# Altium integrated library Infineon_Power_MOSFET.IntLib: 1448 symbols (part 24 of 47)
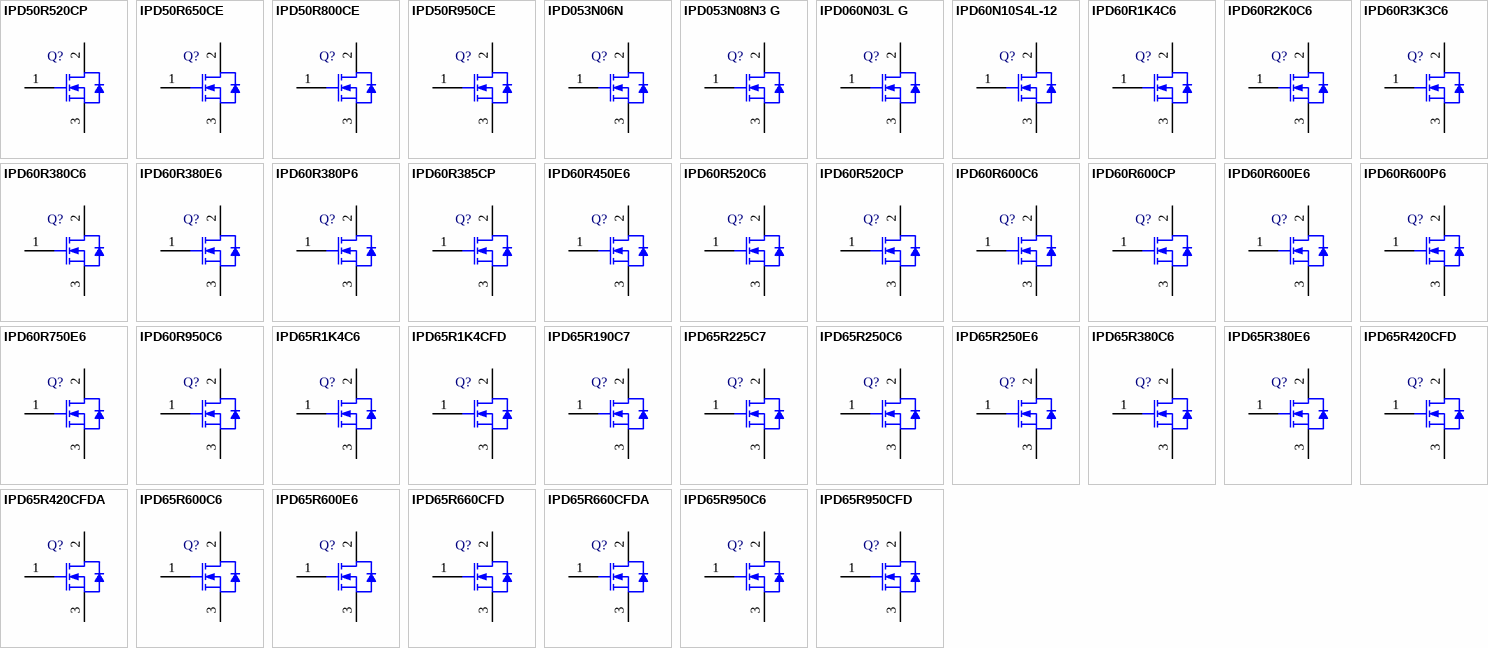
[diagram p60: symbols IPD50R520CP to IPD65R950CFD]

## IPD50R520CP
designator Q?
N-Channel CoolMOS Power-Transistor, 500 V VDS, 7.1 A ID, -55 to 150 degC, PG-TO252-3-313, Reel, Green; Manufacturer: Infineon; PartNumber: IPD50R520CP; Green: TRUE; ID (max): 7.1 A; IDpuls (max): 15 A; Polarity: N; Ptot (max): 66 W; QG: 13 nC; RDS (on) (max): 520 mOhm; Rth: 1.9 K/W; RthJA (max): 62 K/W; VDS (max): 500 V; VGS(th) (max): 3.5 V; VGS(th) (min): 2.5 V; DatasheetVersion: Rev. 2.0; PackageVersion: Oct-10; PackageReference: PG-TO252-3-313; PackageDescription: 3-Pin Plastic (Green) Transistor Single Outline Package, 6.5 x 6.12 mm Body, 2.28 mm Pitch; Supplier 1: Mouser; Supplier Part Number 1: 726-IPD50R520CP; Supplier 2: Newark; Supplier Part Number 2: 33P7142; Supplier 3: Farnell; Supplier Part Number 3: 1664026; Supplier 4: Farnell; Supplier Part Number 4: 1664026RL; Supplier 5: Digi-Key; Supplier Part Number 5: IPD50R520CP-ND; Packing: Reel; RthJC (max): 1.9 K/W; Technology: CoolMOS CP; Mounting Technology: Surface Mount; ComponentLink1Description: Manufacturer URL; ComponentLink1URL: http://www.infineon.com/; ComponentLink2Description: Datasheet; ComponentLink2URL: http://www.infineon.com/dgdl/IPD50R520CP_rev2+1.pdf?folderId=db3a3043163797a6011637d4bae7003b&fileId=db3a3043243b5f170124c8e8f6d24acf; ComponentLink3Description: Package Specification; ComponentLink3URL: http://www.infineon.com/dgdl/PG-TO252-3-313-Package_Overview.pdf?folderId=db3a30432b57a660012b81890ade72d2&fileId=db3a30432b57a660012b8193af2872eb
footprint INF-PG-TO252-3-313_N (DPAK, 3-Leads, Body 6.5x6.12mm, Pitch 2.28mm, IPC Medium Density)
footprint INF-PG-TO252-3-313_L (DPAK, 3-Leads, Body 6.5x6.12mm, Pitch 2.28mm, IPC High Density)
footprint INF-PG-TO252-3-313_M (DPAK, 3-Leads, Body 6.5x6.12mm, Pitch 2.28mm, IPC Low Density)
pins: 1 GATE, 2 DRAIN, 3 SOURCE

## IPD50R650CE
designator Q?
N-Channel CoolMOS CE Power-Transistor, 500 V VDS, 6.1 A ID, -55 to 150 degC, PG-TO252-3-313, Reel, Green; Manufacturer: Infineon; PartNumber: IPD50R650CE; Green: TRUE; ID (max): 6.1 A; IDpuls (max): 19 A; Polarity: N; Ptot (max): 47 W; QG: 15 nC; RDS (on) (max): 650 mOhm; Rth: 2.67 K/W; RthJA (max): 62 K/W; VDS (max): 500 V; VGS(th) (max): 3.5 V; VGS(th) (min): 2.5 V; DatasheetVersion: Rev. 2.0; PackageVersion: Oct-10; PackageReference: PG-TO252-3-313; PackageDescription: 3-Pin Plastic (Green) Transistor Single Outline Package, 6.5 x 6.12 mm Body, 2.28 mm Pitch; Supplier 1: Digi-Key; Supplier Part Number 1: IPD50R650CETR-ND; Supplier 2: Digi-Key; Supplier Part Number 2: IPD50R650CECT-ND; Supplier 3: Digi-Key; Supplier Part Number 3: IPD50R650CEDKR-ND; Packing: Reel; RthJC (max): 2.67 K/W; Technology: CoolMOS CE; Mounting Technology: Surface Mount; ComponentLink1Description: Manufacturer URL; ComponentLink1URL: http://www.infineon.com/; ComponentLink2Description: Datasheet; ComponentLink2URL: http://www.infineon.com/dgdl/IPD50R650CE+2.0.pdf?folderId=db3a3043156fd5730115c736bcc70ff2&fileId=db3a304339d29c450139d41341a202a1; ComponentLink3Description: Package Specification; ComponentLink3URL: http://www.infineon.com/dgdl/PG-TO252-3-313-Package_Overview.pdf?folderId=db3a30432b57a660012b81890ade72d2&fileId=db3a30432b57a660012b8193af2872eb
footprint INF-PG-TO252-3-313_N (DPAK, 3-Leads, Body 6.5x6.12mm, Pitch 2.28mm, IPC Medium Density)
footprint INF-PG-TO252-3-313_L (DPAK, 3-Leads, Body 6.5x6.12mm, Pitch 2.28mm, IPC High Density)
footprint INF-PG-TO252-3-313_M (DPAK, 3-Leads, Body 6.5x6.12mm, Pitch 2.28mm, IPC Low Density)
pins: 1 GATE, 2 DRAIN, 3 SOURCE

## IPD50R800CE
designator Q?
N-Channel CoolMOS CE Power-Transistor, 500 V VDS, 5 A ID, -55 to 150 degC, PG-TO252-3-313, Reel, Green; Manufacturer: Infineon; PartNumber: IPD50R800CE; Green: TRUE; ID (max): 5 A; IDpuls (max): 15.5 A; Polarity: N; Ptot (max): 40 W; QG: 12.4 nC; RDS (on) (max): 800 mOhm; Rth: 3.15 K/W; RthJA (max): 62 K/W; VDS (max): 500 V; VGS(th) (max): 3.5 V; VGS(th) (min): 2.5 V; DatasheetVersion: Rev. 2.0; PackageVersion: Oct-10; PackageReference: PG-TO252-3-313; PackageDescription: 3-Pin Plastic (Green) Transistor Single Outline Package, 6.5 x 6.12 mm Body, 2.28 mm Pitch; Supplier 1: Digi-Key; Supplier Part Number 1: IPD50R800CETR-ND; Supplier 2: Digi-Key; Supplier Part Number 2: IPD50R800CECT-ND; Supplier 3: Digi-Key; Supplier Part Number 3: IPD50R800CEDKR-ND; Packing: Reel; RthJC (max): 3.15 K/W; Technology: CoolMOS CE; Mounting Technology: Surface Mount; ComponentLink1Description: Manufacturer URL; ComponentLink1URL: http://www.infineon.com/; ComponentLink2Description: Datasheet; ComponentLink2URL: http://www.infineon.com/dgdl/IPD50R800CE+2.0.pdf?folderId=db3a3043156fd5730115c736bcc70ff2&fileId=db3a304339d29c450139d424706c02c2; ComponentLink3Description: Package Specification; ComponentLink3URL: http://www.infineon.com/dgdl/PG-TO252-3-313-Package_Overview.pdf?folderId=db3a30432b57a660012b81890ade72d2&fileId=db3a30432b57a660012b8193af2872eb
footprint INF-PG-TO252-3-313_N (DPAK, 3-Leads, Body 6.5x6.12mm, Pitch 2.28mm, IPC Medium Density)
footprint INF-PG-TO252-3-313_L (DPAK, 3-Leads, Body 6.5x6.12mm, Pitch 2.28mm, IPC High Density)
footprint INF-PG-TO252-3-313_M (DPAK, 3-Leads, Body 6.5x6.12mm, Pitch 2.28mm, IPC Low Density)
pins: 1 GATE, 2 DRAIN, 3 SOURCE

## IPD50R950CE
designator Q?
N-Channel CoolMOS CE Power-Transistor, 500 V VDS, 4.3 A ID, -55 to 150 degC, PG-TO252-3-313, Reel, Green; Manufacturer: Infineon; PartNumber: IPD50R950CE; Green: TRUE; ID (max): 4.3 A; IDpuls (max): 12.8 A; Polarity: N; Ptot (max): 34 W; QG: 10.5 nC; RDS (on) (max): 950 mOhm; Rth: 3.7 K/W; RthJA (max): 62 K/W; VDS (max): 500 V; VGS(th) (max): 3.5 V; VGS(th) (min): 2.5 V; DatasheetVersion: Rev. 2.0; PackageVersion: Oct-10; PackageReference: PG-TO252-3-313; PackageDescription: 3-Pin Plastic (Green) Transistor Single Outline Package, 6.5 x 6.12 mm Body, 2.28 mm Pitch; Supplier 1: Mouser; Supplier Part Number 1: 726-IPD50R950CE; Supplier 2: Digi-Key; Supplier Part Number 2: IPD50R950CEINTR-ND; Supplier 3: Digi-Key; Supplier Part Number 3: IPD50R950CEINCT-ND; Supplier 4: Digi-Key; Supplier Part Number 4: IPD50R950CEINDKR-ND; Packing: Reel; RthJC (max): 3.7 K/W; Technology: CoolMOS CE; Mounting Technology: Surface Mount; ComponentLink1Description: Manufacturer URL; ComponentLink1URL: http://www.infineon.com/; ComponentLink2Description: Datasheet; ComponentLink2URL: http://www.infineon.com/dgdl/IPx50R950CE+2.0.pdf?folderId=db3a3043156fd5730115c736bcc70ff2&fileId=db3a3043382e837301385194b31e1064; ComponentLink3Description: Package Specification; ComponentLink3URL: http://www.infineon.com/dgdl/PG-TO252-3-313-Package_Overview.pdf?folderId=db3a30432b57a660012b81890ade72d2&fileId=db3a30432b57a660012b8193af2872eb
footprint INF-PG-TO252-3-313_N (DPAK, 3-Leads, Body 6.5x6.12mm, Pitch 2.28mm, IPC Medium Density)
footprint INF-PG-TO252-3-313_L (DPAK, 3-Leads, Body 6.5x6.12mm, Pitch 2.28mm, IPC High Density)
footprint INF-PG-TO252-3-313_M (DPAK, 3-Leads, Body 6.5x6.12mm, Pitch 2.28mm, IPC Low Density)
pins: 1 GATE, 2 DRAIN, 3 SOURCE

## IPD053N06N
designator Q?
N-Channel OptiMOS Power-Transistor, 60 V VDS, 45 A ID, -55 to 175 degC, PG-TO252-3-11, Reel, Green; Manufacturer: Infineon; PartNumber: IPD053N06N; Green: TRUE; ID (max): 45 A; IDpuls (max): 180 A; Polarity: N; Ptot (max): 83 W; QG: 27 nC; RDS (on) (max): 5.3 mOhm; Rth: 1.8 K/W; RthJA (max): 62 K/W; VDS (max): 60 V; VGS(th) (max): 3.3 V; VGS(th) (min): 2.1 V; DatasheetVersion: Rev. 2.2; PackageVersion: Rev. 02, 03/2007; PackageReference: PG-TO252-3-11; PackageDescription: 3-Pin Plastic (Green) Transistor Single Outline Package, 6.57 x 6.1 mm Body, 2.29 mm Pitch; Supplier 1: Digi-Key; Supplier Part Number 1: IPD053N06NTR-ND; Supplier 2: Digi-Key; Supplier Part Number 2: IPD053N06NCT-ND; Supplier 3: Digi-Key; Supplier Part Number 3: IPD053N06NDKR-ND; Halogen-free: TRUE; Packing: Reel; RthJC (max): 1.8 K/W; Mounting Technology: Surface Mount; ComponentLink1Description: Manufacturer URL; ComponentLink1URL: http://www.infineon.com/; ComponentLink2Description: Datasheet; ComponentLink2URL: http://www.infineon.com/dgdl/IPD053N06N_Rev2.2.pdf?folderId=db3a304313b8b5a60113cee8763b02d7&fileId=db3a30433727a44301372c22c4c3499f; ComponentLink3Description: Package Specification; ComponentLink3URL: http://www.infineon.com/dgdl/IPD160N04L_rev1.0.pdf?folderId=db3a3043163797a6011643468e7505a4&fileId=db3a3043163797a60116436401cf05cf
footprint INF-PG-TO252-3-11_A_N (DPAK, 3-Leads, Body 6.57x6.1mm, Pitch 2.29mm, IPC Medium Density)
footprint INF-PG-TO252-3-11_A_L (DPAK, 3-Leads, Body 6.57x6.1mm, Pitch 2.29mm, IPC High Density)
footprint INF-PG-TO252-3-11_A_M (DPAK, 3-Leads, Body 6.57x6.1mm, Pitch 2.29mm, IPC Low Density)
pins: 1 GATE, 2 DRAIN, 3 SOURCE

## IPD053N08N3 G
designator Q?
N-Channel OptiMOS 3 Power-Transistor, 80 V VDS, 90 A ID, -55 to 175 degC, PG-TO252-3-11, Reel, Green; Manufacturer: Infineon; PartNumber: IPD053N08N3 G; Green: TRUE; ID (max): 90 A; IDpuls (max): 360 A; Polarity: N; Ptot (max): 150 W; QG: 52 nC; RDS (on) (max): 5.3 mOhm; Rth: 1 K/W; RthJA (max): 75 K/W; VDS (max): 80 V; VGS(th) (max): 3.5 V; VGS(th) (min): 2 V; DatasheetVersion: Rev. 1.0; PackageVersion: Rev. 02, 03/2007; PackageReference: PG-TO252-3-11; PackageDescription: 3-Pin Plastic (Green) Transistor Single Outline Package, 6.57 x 6.1 mm Body, 2.29 mm Pitch; Supplier 1: Mouser; Supplier Part Number 1: 726-IPD053N08N3G; Supplier 2: Newark; Supplier Part Number 2: 60R2692; Supplier 3: Farnell; Supplier Part Number 3: 1775574; Supplier 4: Digi-Key; Supplier Part Number 4: IPD053N08N3 GTR-ND; Supplier 5: Digi-Key; Supplier Part Number 5: IPD053N08N3 GCT-ND; Supplier 6: Digi-Key; Supplier Part Number 6: IPD053N08N3 GDKR-ND; Packing: Reel; RthJC (max): 1 K/W; Mounting Technology: Surface Mount; ComponentLink1Description: Manufacturer URL; ComponentLink1URL: http://www.infineon.com/; ComponentLink2Description: Datasheet; ComponentLink2URL: http://www.infineon.com/dgdl/IPD053N08N3_Rev1.pdf?folderId=db3a304313b8b5a60113cee8763b02d7&fileId=db3a304317a748360117cf072cf31ce8; ComponentLink3Description: Package Specification; ComponentLink3URL: http://www.infineon.com/dgdl/IPD160N04L_rev1.0.pdf?folderId=db3a3043163797a6011643468e7505a4&fileId=db3a3043163797a60116436401cf05cf
footprint INF-PG-TO252-3-11_A_N (DPAK, 3-Leads, Body 6.57x6.1mm, Pitch 2.29mm, IPC Medium Density)
footprint INF-PG-TO252-3-11_A_L (DPAK, 3-Leads, Body 6.57x6.1mm, Pitch 2.29mm, IPC High Density)
footprint INF-PG-TO252-3-11_A_M (DPAK, 3-Leads, Body 6.57x6.1mm, Pitch 2.29mm, IPC Low Density)
pins: 1 GATE, 2 DRAIN, 3 SOURCE

## IPD060N03L G
designator Q?
N-Channel OptiMOS 3 Power-Transistor, 30 V VDS, 50 A ID, -55 to 175 degC, PG-TO252-3-11, Reel, Green; Manufacturer: Infineon; PartNumber: IPD060N03L G; Green: TRUE; ID (max): 50 A; IDpuls (max): 350 A; Polarity: N; Ptot (max): 56 W; QG: 11.3 nC; RDS (on) (max): 6 mOhm; RDS (on) (max) (@4.5V): 9 mOhm; Rth: 2.7 K/W; RthJA (max): 75 K/W; VDS (max): 30 V; VGS(th) (max): 2.2 V; VGS(th) (min): 1 V; DatasheetVersion: Rev. 2.0; PackageVersion: Rev. 02, 03/2007; PackageReference: PG-TO252-3-11; PackageDescription: 3-Pin Plastic (Green) Transistor Single Outline Package, 6.57 x 6.1 mm Body, 2.29 mm Pitch; Supplier 1: Newark; Supplier Part Number 1: 60R2693; Supplier 2: Farnell; Supplier Part Number 2: 1775575; Supplier 3: Digi-Key; Supplier Part Number 3: IPD060N03LGINTR-ND; Supplier 4: Digi-Key; Supplier Part Number 4: IPD060N03LGINCT-ND; Supplier 5: Digi-Key; Supplier Part Number 5: IPD060N03LGINDKR-ND; Halogen-free: TRUE; Packing: Reel; RthJC (max): 2.7 K/W; Mounting Technology: Surface Mount; ComponentLink1Description: Manufacturer URL; ComponentLink1URL: http://www.infineon.com/; ComponentLink2Description: Datasheet; ComponentLink2URL: http://www.infineon.com/dgdl/IPD060N03LG_rev2.pdf?folderId=db3a304313b8b5a60113cee8763b02d7&fileId=db3a30432313ff5e01239e4d33a3702f; ComponentLink3Description: Package Specification; ComponentLink3URL: http://www.infineon.com/dgdl/IPD160N04L_rev1.0.pdf?folderId=db3a3043163797a6011643468e7505a4&fileId=db3a3043163797a60116436401cf05cf
footprint INF-PG-TO252-3-11_A_N (DPAK, 3-Leads, Body 6.57x6.1mm, Pitch 2.29mm, IPC Medium Density)
footprint INF-PG-TO252-3-11_A_L (DPAK, 3-Leads, Body 6.57x6.1mm, Pitch 2.29mm, IPC High Density)
footprint INF-PG-TO252-3-11_A_M (DPAK, 3-Leads, Body 6.57x6.1mm, Pitch 2.29mm, IPC Low Density)
pins: 1 GATE, 2 DRAIN, 3 SOURCE

## IPD60N10S4L-12
designator Q?
OptiMOS-T2 Power-Transistor, 100 V VDS, 60 A ID, PG-TO252-3-313, Reel, Green; Manufacturer: Infineon; PartNumber: IPD60N10S4L-12; Green: TRUE; ID (max): 60 A; IDpuls (max): 240 A; Ptot (max): 94 W; QG: 38 nC; RDS (on) (max) (@10V): 12 mOhm; RDS (on) (max) (@4.5V): 15 mOhm; RthJC (max): 1.6 K/W; VDS (max): 100 V; VGS(th) (max): 2.1 V; VGS(th) (min): 1.1 V; DatasheetVersion: Rev. 1.0; PackageVersion: Oct-10; PackageReference: PG-TO252-3-313; PackageDescription: 3-Pin Plastic (Green) Transistor Single Outline Package, 6.5 x 6.12 mm Body, 2.28 mm Pitch; Halogen-free: TRUE; Packing: Reel; Technology: OptiMOS-T2; Mounting Technology: Surface Mount; ComponentLink1Description: Manufacturer URL; ComponentLink1URL: http://www.infineon.com/; ComponentLink2Description: Datasheet; ComponentLink2URL: http://www.infineon.com/dgdl/IPD60N10S4L-12_DS_1_0.pdf?folderId=db3a3043156fd5730115c7d50620107c&fileId=db3a3043372d5cc801374ffd51cd0505&location=en.Products.Automotive_ICs.Automotive_MOSFETs.Single__N-Channel_100V_MOSFETs.DATASHEET.IPD60N10S4L-12_DS_1_0.pdf; ComponentLink3Description: Package Specification; ComponentLink3URL: http://www.infineon.com/dgdl/PG-TO252-3-313-Package_Overview.pdf?folderId=db3a30432b57a660012b81890ade72d2&fileId=db3a30432b57a660012b8193af2872eb
footprint INF-PG-TO252-3-313_N (DPAK, 3-Leads, Body 6.5x6.12mm, Pitch 2.28mm, IPC Medium Density)
footprint INF-PG-TO252-3-313_L (DPAK, 3-Leads, Body 6.5x6.12mm, Pitch 2.28mm, IPC High Density)
footprint INF-PG-TO252-3-313_M (DPAK, 3-Leads, Body 6.5x6.12mm, Pitch 2.28mm, IPC Low Density)
pins: 1 GATE, 2 DRAIN, 3 SOURCE

## IPD60R1K4C6
designator Q?
N-Channel CoolMOS C6 Power-Transistor, 600 V VDS, 3.2 A ID, -55 to 150 degC, PG-TO252-3-313, Reel, Green; Manufacturer: Infineon; PartNumber: IPD60R1K4C6; Green: TRUE; ID (max): 3.2 A; IDpuls (max): 8 A; Polarity: N; Ptot (max): 28.4 W; QG: 9.4 nC; RDS (on) (max): 1,400 mOhm; Rth: 4.4 K/W; RthJA (max): 62 K/W; VDS (max): 600 V; VGS(th) (max): 3.5 V; VGS(th) (min): 2.5 V; DatasheetVersion: Rev. 2.0; PackageVersion: Oct-10; PackageReference: PG-TO252-3-313; PackageDescription: 3-Pin Plastic (Green) Transistor Single Outline Package, 6.5 x 6.12 mm Body, 2.28 mm Pitch; Supplier 1: Mouser; Supplier Part Number 1: 726-IPD60R1K4C6; Supplier 2: Newark; Supplier Part Number 2: 47W3472; Supplier 3: Farnell; Supplier Part Number 3: 2212863; Supplier 4: Digi-Key; Supplier Part Number 4: IPD60R1K4C6TR-ND; Supplier 5: Digi-Key; Supplier Part Number 5: IPD60R1K4C6CT-ND; Supplier 6: Digi-Key; Supplier Part Number 6: IPD60R1K4C6DKR-ND; Packing: Reel; RthJC (max): 4.4 K/W; Technology: CoolMOS C6; Mounting Technology: Surface Mount; ComponentLink1Description: Manufacturer URL; ComponentLink1URL: http://www.infineon.com/; ComponentLink2Description: Datasheet; ComponentLink2URL: http://www.infineon.com/dgdl/IPD60R1K4C6_2.0.pdf?folderId=db3a3043163797a6011638933eda014b&fileId=db3a304329a0f6ee0129eef00aaa05e5; ComponentLink3Description: Package Specification; ComponentLink3URL: http://www.infineon.com/dgdl/PG-TO252-3-313-Package_Overview.pdf?folderId=db3a30432b57a660012b81890ade72d2&fileId=db3a30432b57a660012b8193af2872eb
footprint INF-PG-TO252-3-313_N (DPAK, 3-Leads, Body 6.5x6.12mm, Pitch 2.28mm, IPC Medium Density)
footprint INF-PG-TO252-3-313_L (DPAK, 3-Leads, Body 6.5x6.12mm, Pitch 2.28mm, IPC High Density)
footprint INF-PG-TO252-3-313_M (DPAK, 3-Leads, Body 6.5x6.12mm, Pitch 2.28mm, IPC Low Density)
pins: 1 GATE, 2 DRAIN, 3 SOURCE

## IPD60R2K0C6
designator Q?
N-Channel CoolMOS C6 Power-Transistor, 600 V VDS, 2.4 A ID, -55 to 150 degC, PG-TO252-3-313, Reel, Green; Manufacturer: Infineon; PartNumber: IPD60R2K0C6; Green: TRUE; ID (max): 2.4 A; IDpuls (max): 6 A; Polarity: N; Ptot (max): 22.3 W; QG: 6.7 nC; RDS (on) (max): 2000 mOhm; Rth: 5.6 K/W; RthJA (max): 62 K/W; VDS (max): 600 V; VGS(th) (max): 3.5 V; VGS(th) (min): 2.5 V; DatasheetVersion: Rev. 2.0; PackageVersion: Oct-10; PackageReference: PG-TO252-3-313; PackageDescription: 3-Pin Plastic (Green) Transistor Single Outline Package, 6.5 x 6.12 mm Body, 2.28 mm Pitch; Supplier 1: Mouser; Supplier Part Number 1: 726-IPD60R2K0C6; Supplier 2: Newark; Supplier Part Number 2: 47W3473; Supplier 3: Farnell; Supplier Part Number 3: 2212874; Supplier 4: Digi-Key; Supplier Part Number 4: IPD60R2K0C6TR-ND; Supplier 5: Digi-Key; Supplier Part Number 5: IPD60R2K0C6CT-ND; Supplier 6: Digi-Key; Supplier Part Number 6: IPD60R2K0C6DKR-ND; Packing: Reel; RthJC (max): 5.6 K/W; Technology: CoolMOS C6; Mounting Technology: Surface Mount; ComponentLink1Description: Manufacturer URL; ComponentLink1URL: http://www.infineon.com/; ComponentLink2Description: Datasheet; ComponentLink2URL: http://www.infineon.com/dgdl/IPD60R2K0C6_2.0.pdf?folderId=db3a3043163797a6011638933eda014b&fileId=db3a304329a0f6ee012a0dfc6b8b064f; ComponentLink3Description: Package Specification; ComponentLink3URL: http://www.infineon.com/dgdl/PG-TO252-3-313-Package_Overview.pdf?folderId=db3a30432b57a660012b81890ade72d2&fileId=db3a30432b57a660012b8193af2872eb
footprint INF-PG-TO252-3-313_N (DPAK, 3-Leads, Body 6.5x6.12mm, Pitch 2.28mm, IPC Medium Density)
footprint INF-PG-TO252-3-313_L (DPAK, 3-Leads, Body 6.5x6.12mm, Pitch 2.28mm, IPC High Density)
footprint INF-PG-TO252-3-313_M (DPAK, 3-Leads, Body 6.5x6.12mm, Pitch 2.28mm, IPC Low Density)
pins: 1 GATE, 2 DRAIN, 3 SOURCE

## IPD60R3K3C6
designator Q?
N-Channel CoolMOS C6 Power-Transistor, 600 V VDS, 1.7 A ID, -55 to 150 degC, PG-TO252-3-313, Reel, Green; Manufacturer: Infineon; PartNumber: IPD60R3K3C6; Green: TRUE; ID (max): 1.7 A; IDpuls (max): 4 A; Polarity: N; Ptot (max): 18.1 W; QG: 4.6 nC; RDS (on) (max): 3,300 mOhm; Rth: 6.9 K/W; RthJA (max): 62 K/W; VDS (max): 600 V; VGS(th) (max): 3.5 V; VGS(th) (min): 2.5 V; DatasheetVersion: Rev. 2.0; PackageVersion: Oct-10; PackageReference: PG-TO252-3-313; PackageDescription: 3-Pin Plastic (Green) Transistor Single Outline Package, 6.5 x 6.12 mm Body, 2.28 mm Pitch; Supplier 1: Mouser; Supplier Part Number 1: 726-IPD60R3K3C6; Supplier 2: Digi-Key; Supplier Part Number 2: IPD60R3K3C6TR-ND; Supplier 3: Digi-Key; Supplier Part Number 3: IPD60R3K3C6CT-ND; Supplier 4: Digi-Key; Supplier Part Number 4: IPD60R3K3C6DKR-ND; Packing: Reel; RthJC (max): 6.9 K/W; Technology: CoolMOS C6; Mounting Technology: Surface Mount; ComponentLink1Description: Manufacturer URL; ComponentLink1URL: http://www.infineon.com/; ComponentLink2Description: Datasheet; ComponentLink2URL: http://www.infineon.com/dgdl/IPD60R3K3C6_2.0.pdf?folderId=db3a3043156fd5730115c736bcc70ff2&fileId=db3a304329a0f6ee0129f96874465b3a; ComponentLink3Description: Package Specification; ComponentLink3URL: http://www.infineon.com/dgdl/PG-TO252-3-313-Package_Overview.pdf?folderId=db3a30432b57a660012b81890ade72d2&fileId=db3a30432b57a660012b8193af2872eb
footprint INF-PG-TO252-3-313_N (DPAK, 3-Leads, Body 6.5x6.12mm, Pitch 2.28mm, IPC Medium Density)
footprint INF-PG-TO252-3-313_L (DPAK, 3-Leads, Body 6.5x6.12mm, Pitch 2.28mm, IPC High Density)
footprint INF-PG-TO252-3-313_M (DPAK, 3-Leads, Body 6.5x6.12mm, Pitch 2.28mm, IPC Low Density)
pins: 1 GATE, 2 DRAIN, 3 SOURCE

## IPD60R380C6
designator Q?
N-Channel CoolMOS C6 Power-Transistor, 600 V VDS, 10.6 A ID, -55 to 150 degC, PG-TO252-3-313, Reel, Green; Manufacturer: Infineon; PartNumber: IPD60R380C6; Green: TRUE; ID (max): 10.6 A; IDpuls (max): 30 A; Polarity: N; Ptot (max): 83 W; QG: 32 nC; RDS (on) (max): 380 mOhm; Rth: 1.5 K/W; RthJA (max): 62 K/W; VDS (max): 600 V; VGS(th) (max): 3.5 V; VGS(th) (min): 2.5 V; DatasheetVersion: Rev. 2.0; PackageVersion: Oct-10; PackageReference: PG-TO252-3-313; PackageDescription: 3-Pin Plastic (Green) Transistor Single Outline Package, 6.5 x 6.12 mm Body, 2.28 mm Pitch; Supplier 1: Mouser; Supplier Part Number 1: 726-IPD60R380C6XT; Supplier 2: Newark; Supplier Part Number 2: 30T1835; Supplier 3: Farnell; Supplier Part Number 3: 1860805; Supplier 4: Digi-Key; Supplier Part Number 4: IPD60R380C6INTR-ND; Supplier 5: Digi-Key; Supplier Part Number 5: IPD60R380C6INCT-ND; Supplier 6: Digi-Key; Supplier Part Number 6: IPD60R380C6INDKR-ND; Packing: Reel; RthJC (max): 1.5 K/W; Technology: CoolMOS C6; Mounting Technology: Surface Mount; ComponentLink1Description: Manufacturer URL; ComponentLink1URL: http://www.infineon.com/; ComponentLink2Description: Datasheet; ComponentLink2URL: http://www.infineon.com/dgdl/IPD60R380C6_2_0.pdf?folderId=db3a30431ff98815012019af55de3f2c&fileId=db3a30432239cccd0122a82c9a1b7d6b; ComponentLink3Description: Package Specification; ComponentLink3URL: http://www.infineon.com/dgdl/PG-TO252-3-313-Package_Overview.pdf?folderId=db3a30432b57a660012b81890ade72d2&fileId=db3a30432b57a660012b8193af2872eb
footprint INF-PG-TO252-3-313_N (DPAK, 3-Leads, Body 6.5x6.12mm, Pitch 2.28mm, IPC Medium Density)
footprint INF-PG-TO252-3-313_L (DPAK, 3-Leads, Body 6.5x6.12mm, Pitch 2.28mm, IPC High Density)
footprint INF-PG-TO252-3-313_M (DPAK, 3-Leads, Body 6.5x6.12mm, Pitch 2.28mm, IPC Low Density)
pins: 1 GATE, 2 DRAIN, 3 SOURCE

## IPD60R380E6
designator Q?
N-Channel CoolMOS(TM) E6 Power Transistor, 600 V VDS, -55 to 150 degC, PG-TO252-3, Reel, Green; Manufacturer: Infineon; PartNumber: IPD60R380E6; Green: TRUE; Polarity: FALSE; RDS (on) (max): 380 mOhm; VDS (max): 600 V; DatasheetVersion: Rev. 2.5; PackageVersion: Rev. 2.2, 04/2007; PackageReference: PG-TO252-3-1_A; PackageDescription: 3-Pin Plastic (Green) Transistor Single Outline Package, 6.565 x 6.1 mm, 2.28 mm Pitch; Supplier 1: Mouser; Supplier Part Number 1: N/A; Halogen-free: TRUE; Packing: Reel; Mounting Technology: Surface Mount; ComponentLink1Description: Manufacturer URL; ComponentLink1URL: http://www.infineon.com/; ComponentLink2Description: Datasheet; ComponentLink2URL: http://www.infineon.com/dgdl/IPX60R380E6_Rev.2.5.pdf?folderId=db3a3043156fd5730115c736bcc70ff2&fileId=db3a30433ecb86d4013ed6779c5e2414; ComponentLink3Description: Package Specification; ComponentLink3URL: http://www.infineon.com/dgdl/IDD03E60Grev2_2.pdf?folderId=db3a304412b407950112b438b4176b74&fileId=db3a304412b407950112b438b49f6b75
footprint INF-PG-TO252-3-1_A_N (DPAK, 3-Leads, Body 6.565x6.1mm, Pitch 2.28mm, IPC Medium Density)
footprint INF-PG-TO252-3-1_A_L (DPAK, 3-Leads, Body 6.565x6.095mm, Pitch 2.29mm, IPC High Density)
footprint INF-PG-TO252-3-1_A_M (DPAK, 3-Leads, Body 6.565x6.095mm, Pitch 2.29mm, IPC Low Density)
pins: 1 GATE, 2 DRAIN, 3 SOURCE

## IPD60R380P6
designator Q?
N-Channel CoolMOS(TM) P6 Power Transistor, 600 V VDS, -55 to 150 degC, PG-TO252-3, Reel, Green; Manufacturer: Infineon; PartNumber: IPD60R380P6; Green: TRUE; Polarity: FALSE; RDS (on) (max): 380 mOhm; VDS (max): 600 V; DatasheetVersion: Rev. 2.1; PackageVersion: Rev. 2.2, 04/2007; PackageReference: PG-TO252-3-1_A; PackageDescription: 3-Pin Plastic (Green) Transistor Single Outline Package, 6.565 x 6.1 mm, 2.28 mm Pitch; Supplier 1: Farnell; Supplier Part Number 1: 2420497; Supplier 2: Newark; Supplier Part Number 2: 54X5224; Supplier 3: Mouser; Supplier Part Number 3: N/A; Halogen-free: TRUE; Packing: Reel; Mounting Technology: Surface Mount; ComponentLink1Description: Manufacturer URL; ComponentLink1URL: http://www.infineon.com/; ComponentLink2Description: Datasheet; ComponentLink2URL: http://www.infineon.com/dgdl/DS_IPx60R380P6_2_1.pdf?folderId=db3a3043156fd5730115c736bcc70ff2&fileId=db3a3043416e106e01416e9316410203; ComponentLink3Description: Package Specification; ComponentLink3URL: http://www.infineon.com/dgdl/IDD03E60Grev2_2.pdf?folderId=db3a304412b407950112b438b4176b74&fileId=db3a304412b407950112b438b49f6b75
footprint INF-PG-TO252-3-1_A_N (DPAK, 3-Leads, Body 6.565x6.1mm, Pitch 2.28mm, IPC Medium Density)
footprint INF-PG-TO252-3-1_A_L (DPAK, 3-Leads, Body 6.565x6.095mm, Pitch 2.29mm, IPC High Density)
footprint INF-PG-TO252-3-1_A_M (DPAK, 3-Leads, Body 6.565x6.095mm, Pitch 2.29mm, IPC Low Density)
pins: 1 GATE, 2 DRAIN, 3 SOURCE

## IPD60R385CP
designator Q?
N-Channel CoolMOS Power-Transistor, 600 V VDS, 9 A ID, -55 to 150 degC, PG-TO252-3-313, Reel, Green; Manufacturer: Infineon; PartNumber: IPD60R385CP; Green: TRUE; ID (max): 9 A; IDpuls (max): 27 A; Polarity: N; Ptot (max): 83 W; QG: 17 nC; RDS (on) (max): 385 mOhm; Rth: 1.5 K/W; RthJA (max): 62 K/W; VDS (max): 600 V; VGS(th) (max): 3.5 V; VGS(th) (min): 2.5 V; DatasheetVersion: Rev. 2.2; PackageVersion: Oct-10; PackageReference: PG-TO252-3-313; PackageDescription: 3-Pin Plastic (Green) Transistor Single Outline Package, 6.5 x 6.12 mm Body, 2.28 mm Pitch; Supplier 1: Mouser; Supplier Part Number 1: 726-IPD60R385CP; Supplier 2: Newark; Supplier Part Number 2: 33P7143; Supplier 3: Farnell; Supplier Part Number 3: 1664027RL; Supplier 4: Farnell; Supplier Part Number 4: 1664027; Supplier 5: Digi-Key; Supplier Part Number 5: IPD60R385CPINTR-ND; Supplier 6: Digi-Key; Supplier Part Number 6: IPD60R385CPINCT-ND; Supplier 7: Digi-Key; Supplier Part Number 7: IPD60R385CPINDKR-ND; Packing: Reel; RthJC (max): 1.5 K/W; Technology: CoolMOS CP; Mounting Technology: Surface Mount; ComponentLink1Description: Manufacturer URL; ComponentLink1URL: http://www.infineon.com/; ComponentLink2Description: Datasheet; ComponentLink2URL: http://www.infineon.com/dgdl/IPD60R385CP_rev2%2B2%5B1%5D.pdf?folderId=db3a3043163797a6011637d4bae7003b&fileId=db3a30432b16d655012b19dd142e2d48; ComponentLink3Description: Package Specification; ComponentLink3URL: http://www.infineon.com/dgdl/PG-TO252-3-313-Package_Overview.pdf?folderId=db3a30432b57a660012b81890ade72d2&fileId=db3a30432b57a660012b8193af2872eb
footprint INF-PG-TO252-3-313_N (DPAK, 3-Leads, Body 6.5x6.12mm, Pitch 2.28mm, IPC Medium Density)
footprint INF-PG-TO252-3-313_L (DPAK, 3-Leads, Body 6.5x6.12mm, Pitch 2.28mm, IPC High Density)
footprint INF-PG-TO252-3-313_M (DPAK, 3-Leads, Body 6.5x6.12mm, Pitch 2.28mm, IPC Low Density)
pins: 1 GATE, 2 DRAIN, 3 SOURCE

## IPD60R450E6
designator Q?
N-Channel CoolMOS E6 Power-Transistor, 600 V VDS, 9.2 A ID, -55 to 150 degC, PG-TO252-3-313, Reel, Green; Manufacturer: Infineon; PartNumber: IPD60R450E6; Green: TRUE; ID (max): 9.2 A; IDpuls (max): 26 A; Polarity: N; Ptot (max): 74 W; QG: 28 nC; RDS (on) (max): 450 mOhm; Rth: 1.7 K/W; RthJA (max): 62 K/W; VDS (max): 600 V; VGS(th) (max): 3.5 V; VGS(th) (min): 2.5 V; DatasheetVersion: Rev. 2.0; PackageVersion: Oct-10; PackageReference: PG-TO252-3-313; PackageDescription: 3-Pin Plastic (Green) Transistor Single Outline Package, 6.5 x 6.12 mm Body, 2.28 mm Pitch; Supplier 1: Mouser; Supplier Part Number 1: 726-IPD60R450E6; Supplier 2: Digi-Key; Supplier Part Number 2: IPD60R450E6TR-ND; Supplier 3: Digi-Key; Supplier Part Number 3: IPD60R450E6CT-ND; Supplier 4: Digi-Key; Supplier Part Number 4: IPD60R450E6DKR-ND; Packing: Reel; RthJC (max): 1.7 K/W; Technology: CoolMOS E6; Mounting Technology: Surface Mount; ComponentLink1Description: Manufacturer URL; ComponentLink1URL: http://www.infineon.com/; ComponentLink2Description: Datasheet; ComponentLink2URL: http://www.infineon.com/dgdl/IPD60R450E6_2_0.pdf?folderId=db3a3043156fd5730115c736bcc70ff2&fileId=db3a30432a14dd54012a196a77652b30; ComponentLink3Description: Package Specification; ComponentLink3URL: http://www.infineon.com/dgdl/PG-TO252-3-313-Package_Overview.pdf?folderId=db3a30432b57a660012b81890ade72d2&fileId=db3a30432b57a660012b8193af2872eb
footprint INF-PG-TO252-3-313_N (DPAK, 3-Leads, Body 6.5x6.12mm, Pitch 2.28mm, IPC Medium Density)
footprint INF-PG-TO252-3-313_L (DPAK, 3-Leads, Body 6.5x6.12mm, Pitch 2.28mm, IPC High Density)
footprint INF-PG-TO252-3-313_M (DPAK, 3-Leads, Body 6.5x6.12mm, Pitch 2.28mm, IPC Low Density)
pins: 1 GATE, 2 DRAIN, 3 SOURCE

## IPD60R520C6
designator Q?
N-Channel CoolMOS C6 Power-Transistor, 600 V VDS, 8.1 A ID, -55 to 150 degC, PG-TO252-3-313, Reel, Green; Manufacturer: Infineon; PartNumber: IPD60R520C6; Green: TRUE; ID (max): 8.1 A; IDpuls (max): 22 A; Polarity: N; Ptot (max): 66 W; QG: 23.4 nC; RDS (on) (max): 520 mOhm; Rth: 1.9 K/W; RthJA (max): 62 K/W; VDS (max): 600 V; VGS(th) (max): 3.5 V; VGS(th) (min): 2.5 V; DatasheetVersion: Rev. 2.0; PackageVersion: Oct-10; PackageReference: PG-TO252-3-313; PackageDescription: 3-Pin Plastic (Green) Transistor Single Outline Package, 6.5 x 6.12 mm Body, 2.28 mm Pitch; Supplier 1: Mouser; Supplier Part Number 1: 726-IPD60R520C6; Supplier 2: Digi-Key; Supplier Part Number 2: IPD60R520C6TR-ND; Supplier 3: Digi-Key; Supplier Part Number 3: IPD60R520C6CT-ND; Supplier 4: Digi-Key; Supplier Part Number 4: IPD60R520C6DKR-ND; Packing: Reel; RthJC (max): 1.9 K/W; Technology: CoolMOS C6; Mounting Technology: Surface Mount; ComponentLink1Description: Manufacturer URL; ComponentLink1URL: http://www.infineon.com/; ComponentLink2Description: Datasheet; ComponentLink2URL: http://www.infineon.com/dgdl/IPD60R520C6_2.0.pdf?folderId=db3a3043163797a6011638933eda014b&fileId=db3a304323b87bc20123e676d18358fb; ComponentLink3Description: Package Specification; ComponentLink3URL: http://www.infineon.com/dgdl/PG-TO252-3-313-Package_Overview.pdf?folderId=db3a30432b57a660012b81890ade72d2&fileId=db3a30432b57a660012b8193af2872eb
footprint INF-PG-TO252-3-313_N (DPAK, 3-Leads, Body 6.5x6.12mm, Pitch 2.28mm, IPC Medium Density)
footprint INF-PG-TO252-3-313_L (DPAK, 3-Leads, Body 6.5x6.12mm, Pitch 2.28mm, IPC High Density)
footprint INF-PG-TO252-3-313_M (DPAK, 3-Leads, Body 6.5x6.12mm, Pitch 2.28mm, IPC Low Density)
pins: 1 GATE, 2 DRAIN, 3 SOURCE

## IPD60R520CP
designator Q?
N-Channel CoolMOS Power-Transistor, 600 V VDS, 6.8 A ID, -55 to 150 degC, PG-TO252-3-313, Reel, Green; Manufacturer: Infineon; PartNumber: IPD60R520CP; Green: TRUE; ID (max): 6.8 A; IDpuls (max): 17 A; Polarity: N; Ptot (max): 66 W; QG: 24 nC; RDS (on) (max): 520 mOhm; Rth: 1.9 K/W; RthJA (max): 62 K/W; VDS (max): 600 V; VGS(th) (max): 3.5 V; VGS(th) (min): 2.5 V; DatasheetVersion: Rev. 2.0; PackageVersion: Oct-10; PackageReference: PG-TO252-3-313; PackageDescription: 3-Pin Plastic (Green) Transistor Single Outline Package, 6.5 x 6.12 mm Body, 2.28 mm Pitch; Supplier 1: Mouser; Supplier Part Number 1: 726-IPD60R520CP; Supplier 2: Newark; Supplier Part Number 2: 33P7144; Supplier 3: Farnell; Supplier Part Number 3: 1664028; Supplier 4: Digi-Key; Supplier Part Number 4: IPD60R520CPTR-ND; Supplier 5: Digi-Key; Supplier Part Number 5: IPD60R520CPCT-ND; Supplier 6: Digi-Key; Supplier Part Number 6: IPD60R520CPDKR-ND; Packing: Reel; RthJC (max): 1.9 K/W; Technology: CoolMOS CP; Mounting Technology: Surface Mount; ComponentLink1Description: Manufacturer URL; ComponentLink1URL: http://www.infineon.com/; ComponentLink2Description: Datasheet; ComponentLink2URL: http://www.infineon.com/dgdl/IPD60R520CP_rev2.0.pdf?folderId=db3a3043163797a6011637d4bae7003b&fileId=db3a3043183a95550118793017010467; ComponentLink3Description: Package Specification; ComponentLink3URL: http://www.infineon.com/dgdl/PG-TO252-3-313-Package_Overview.pdf?folderId=db3a30432b57a660012b81890ade72d2&fileId=db3a30432b57a660012b8193af2872eb
footprint INF-PG-TO252-3-313_N (DPAK, 3-Leads, Body 6.5x6.12mm, Pitch 2.28mm, IPC Medium Density)
footprint INF-PG-TO252-3-313_L (DPAK, 3-Leads, Body 6.5x6.12mm, Pitch 2.28mm, IPC High Density)
footprint INF-PG-TO252-3-313_M (DPAK, 3-Leads, Body 6.5x6.12mm, Pitch 2.28mm, IPC Low Density)
pins: 1 GATE, 2 DRAIN, 3 SOURCE

## IPD60R600C6
designator Q?
N-Channel CoolMOS E6 Power-Transistor, 600 V VDS, 7.3 A ID, -55 to 150 degC, PG-TO252-3-313, Reel, Green; Manufacturer: Infineon; PartNumber: IPD60R600C6; Green: TRUE; ID (max): 7.3 A; IDpuls (max): 19 A; Polarity: N; Ptot (max): 63 W; QG: 20.5 nC; RDS (on) (max): 600 mOhm; Rth: 2 K/W; RthJA (max): 62 K/W; VDS (max): 600 V; VGS(th) (max): 3.5 V; VGS(th) (min): 2.5 V; DatasheetVersion: Rev. 2.0; PackageVersion: Oct-10; PackageReference: PG-TO252-3-313; PackageDescription: 3-Pin Plastic (Green) Transistor Single Outline Package, 6.5 x 6.12 mm Body, 2.28 mm Pitch; Supplier 1: Mouser; Supplier Part Number 1: 726-IPD60R600C6; Supplier 2: Digi-Key; Supplier Part Number 2: IPD60R600C6INTR-ND; Supplier 3: Digi-Key; Supplier Part Number 3: IPD60R600C6INCT-ND; Supplier 4: Digi-Key; Supplier Part Number 4: IPD60R600C6INDKR-ND; Packing: Reel; RthJC (max): 2 K/W; Technology: CoolMOS C6; Mounting Technology: Surface Mount; ComponentLink1Description: Manufacturer URL; ComponentLink1URL: http://www.infineon.com/; ComponentLink2Description: Datasheet; ComponentLink2URL: http://www.infineon.com/dgdl/IPD60R600C6_2_0.pdf?folderId=db3a30431ff98815012019af55de3f2c&fileId=db3a30432239cccd0122a83152b97d6f; ComponentLink3Description: Package Specification; ComponentLink3URL: http://www.infineon.com/dgdl/PG-TO252-3-313-Package_Overview.pdf?folderId=db3a30432b57a660012b81890ade72d2&fileId=db3a30432b57a660012b8193af2872eb
footprint INF-PG-TO252-3-313_N (DPAK, 3-Leads, Body 6.5x6.12mm, Pitch 2.28mm, IPC Medium Density)
footprint INF-PG-TO252-3-313_L (DPAK, 3-Leads, Body 6.5x6.12mm, Pitch 2.28mm, IPC High Density)
footprint INF-PG-TO252-3-313_M (DPAK, 3-Leads, Body 6.5x6.12mm, Pitch 2.28mm, IPC Low Density)
pins: 1 GATE, 2 DRAIN, 3 SOURCE

## IPD60R600CP
designator Q?
N-Channel CoolMOS Power-Transistor, 600 V VDS, 6.1 A ID, -55 to 150 degC, PG-TO252-3-313, Reel, Green; Manufacturer: Infineon; PartNumber: IPD60R600CP; Green: TRUE; ID (max): 6.1 A; IDpuls (max): 15 A; Polarity: N; Ptot (max): 60 W; QG: 21 nC; RDS (on) (max): 600 mOhm; Rth: 2.1 K/W; RthJA (max): 62 K/W; VDS (max): 600 V; VGS(th) (max): 3.5 V; VGS(th) (min): 2.5 V; DatasheetVersion: Rev. 2.0; PackageVersion: Oct-10; PackageReference: PG-TO252-3-313; PackageDescription: 3-Pin Plastic (Green) Transistor Single Outline Package, 6.5 x 6.12 mm Body, 2.28 mm Pitch; Supplier 1: Mouser; Supplier Part Number 1: 726-IPD60R600CP; Supplier 2: Newark; Supplier Part Number 2: 33P7145; Supplier 3: Farnell; Supplier Part Number 3: 1664029; Supplier 4: Farnell; Supplier Part Number 4: 1664029RL; Supplier 5: Digi-Key; Supplier Part Number 5: IPD60R600CPTR-ND; Supplier 6: Digi-Key; Supplier Part Number 6: IPD60R600CPCT-ND; Supplier 7: Digi-Key; Supplier Part Number 7: IPD60R600CPDKR-ND; Packing: Reel; RthJC (max): 2.1 K/W; Technology: CoolMOS CP; Mounting Technology: Surface Mount; ComponentLink1Description: Manufacturer URL; ComponentLink1URL: http://www.infineon.com/; ComponentLink2Description: Datasheet; ComponentLink2URL: http://www.infineon.com/dgdl/IPD60R600CP_rev2%5B1%5D.0.pdf?folderId=db3a3043163797a6011638933eda014b&fileId=db3a30432313ff5e012385657d1567e3; ComponentLink3Description: Package Specification; ComponentLink3URL: http://www.infineon.com/dgdl/PG-TO252-3-313-Package_Overview.pdf?folderId=db3a30432b57a660012b81890ade72d2&fileId=db3a30432b57a660012b8193af2872eb
footprint INF-PG-TO252-3-313_N (DPAK, 3-Leads, Body 6.5x6.12mm, Pitch 2.28mm, IPC Medium Density)
footprint INF-PG-TO252-3-313_L (DPAK, 3-Leads, Body 6.5x6.12mm, Pitch 2.28mm, IPC High Density)
footprint INF-PG-TO252-3-313_M (DPAK, 3-Leads, Body 6.5x6.12mm, Pitch 2.28mm, IPC Low Density)
pins: 1 GATE, 2 DRAIN, 3 SOURCE

## IPD60R600E6
designator Q?
N-Channel CoolMOS E6 Power-Transistor, 600 V VDS, 7.3 A ID, -55 to 150 degC, PG-TO252-3-313, Reel, Green; Manufacturer: Infineon; PartNumber: IPD60R600E6; Green: TRUE; ID (max): 7.3 A; IDpuls (max): 19 A; Polarity: N; Ptot (max): 63 W; QG: 20.5 nC; RDS (on) (max): 600 mOhm; Rth: 2 K/W; RthJA (max): 62 K/W; VDS (max): 600 V; VGS(th) (max): 3.5 V; VGS(th) (min): 2.5 V; DatasheetVersion: Rev. 2.0; PackageVersion: Oct-10; PackageReference: PG-TO252-3-313; PackageDescription: 3-Pin Plastic (Green) Transistor Single Outline Package, 6.5 x 6.12 mm Body, 2.28 mm Pitch; Supplier 1: Mouser; Supplier Part Number 1: 726-IPD60R600E6; Supplier 2: Digi-Key; Supplier Part Number 2: IPD60R600E6TR-ND; Supplier 3: Digi-Key; Supplier Part Number 3: IPD60R600E6CT-ND; Supplier 4: Digi-Key; Supplier Part Number 4: IPD60R600E6DKR-ND; Packing: Reel; RthJC (max): 2 K/W; Technology: CoolMOS E6; Mounting Technology: Surface Mount; ComponentLink1Description: Manufacturer URL; ComponentLink1URL: http://www.infineon.com/; ComponentLink2Description: Datasheet; ComponentLink2URL: http://www.infineon.com/dgdl/IPD60R600E6+2.0.pdf?folderId=db3a3043163797a6011638933eda014b&fileId=db3a304327b8975001281b3941101ab2; ComponentLink3Description: Package Specification; ComponentLink3URL: http://www.infineon.com/dgdl/PG-TO252-3-313-Package_Overview.pdf?folderId=db3a30432b57a660012b81890ade72d2&fileId=db3a30432b57a660012b8193af2872eb
footprint INF-PG-TO252-3-313_N (DPAK, 3-Leads, Body 6.5x6.12mm, Pitch 2.28mm, IPC Medium Density)
footprint INF-PG-TO252-3-313_L (DPAK, 3-Leads, Body 6.5x6.12mm, Pitch 2.28mm, IPC High Density)
footprint INF-PG-TO252-3-313_M (DPAK, 3-Leads, Body 6.5x6.12mm, Pitch 2.28mm, IPC Low Density)
pins: 1 GATE, 2 DRAIN, 3 SOURCE

## IPD60R600P6
designator Q?
N-Channel CoolMOS(TM) P6 Power Transistor, 600 V VDS, -55 to 150 degC, PG-TO252-3, Reel, Green; Manufacturer: Infineon; PartNumber: IPD60R600P6; Green: TRUE; Polarity: FALSE; RDS (on) (max): 600 mOhm; VDS (max): 600 V; DatasheetVersion: Rev. 2.1; PackageVersion: Rev. 2.2, 04/2007; PackageReference: PG-TO252-3-1_A; PackageDescription: 3-Pin Plastic (Green) Transistor Single Outline Package, 6.565 x 6.1 mm, 2.28 mm Pitch; Supplier 1: Digi-Key; Supplier Part Number 1: IPD60R600P6TR-ND; Supplier 2: Digi-Key; Supplier Part Number 2: IPD60R600P6CT-ND; Supplier 3: Digi-Key; Supplier Part Number 3: IPD60R600P6DKR-ND; Supplier 4: Farnell; Supplier Part Number 4: 2420496; Supplier 5: Newark; Supplier Part Number 5: 54X5225; Supplier 6: Mouser; Supplier Part Number 6: 726-IPD60R600P6; Halogen-free: FALSE; Packing: Reel; Mounting Technology: Surface Mount; ComponentLink1Description: Manufacturer URL; ComponentLink1URL: http://www.infineon.com/; ComponentLink2Description: Datasheet; ComponentLink2URL: http://www.infineon.com/dgdl/DS_IPx60R600P6_2_1.pdf?folderId=db3a3043156fd5730115c736bcc70ff2&fileId=db3a30433f2e70c5013f3862b5622681; ComponentLink3Description: Package Specification; ComponentLink3URL: http://www.infineon.com/dgdl/IDD03E60Grev2_2.pdf?folderId=db3a304412b407950112b438b4176b74&fileId=db3a304412b407950112b438b49f6b75
footprint INF-PG-TO252-3-1_A_N (DPAK, 3-Leads, Body 6.565x6.1mm, Pitch 2.28mm, IPC Medium Density)
footprint INF-PG-TO252-3-1_A_L (DPAK, 3-Leads, Body 6.565x6.095mm, Pitch 2.29mm, IPC High Density)
footprint INF-PG-TO252-3-1_A_M (DPAK, 3-Leads, Body 6.565x6.095mm, Pitch 2.29mm, IPC Low Density)
pins: 1 GATE, 2 DRAIN, 3 SOURCE

## IPD60R750E6
designator Q?
N-Channel CoolMOS E6 Power-Transistor, 600 V VDS ,5.7 A ID, -55 to 150 degC, PG-TO252-3-313, Reel, Green; Manufacturer: Infineon; PartNumber: IPD60R750E6; Green: TRUE; ID (max): 5.7 A; IDpuls (max): 15.7 A; Polarity: N; Ptot (max): 48 W; QG: 17.2 nC; RDS (on) (max): 750 mOhm; Rth: 2.6 K/W; RthJA (max): 62 K/W; VDS (max): 600 V; VGS(th) (max): 3.5 V; VGS(th) (min): 2.5 V; DatasheetVersion: Rev. 2.0; PackageVersion: Oct-10; PackageReference: PG-TO252-3-313; PackageDescription: 3-Pin Plastic (Green) Transistor Single Outline Package, 6.5 x 6.12 mm Body, 2.28 mm Pitch; Supplier 1: Mouser; Supplier Part Number 1: 726-IPD60R750E6; Supplier 2: Digi-Key; Supplier Part Number 2: IPD60R750E6TR-ND; Supplier 3: Digi-Key; Supplier Part Number 3: IPD60R750E6CT-ND; Supplier 4: Digi-Key; Supplier Part Number 4: IPD60R750E6DKR-ND; Packing: Reel; RthJC (max): 2.6 K/W; Technology: CoolMOS E6; Mounting Technology: Surface Mount; ComponentLink1Description: Manufacturer URL; ComponentLink1URL: http://www.infineon.com/; ComponentLink2Description: Datasheet; ComponentLink2URL: http://www.infineon.com/dgdl/IPD60R750E6_2.0_.pdf?folderId=db3a3043156fd5730115c736bcc70ff2&fileId=db3a30432a14dd54012a194f52852b08; ComponentLink3Description: Package Specification; ComponentLink3URL: http://www.infineon.com/dgdl/PG-TO252-3-313-Package_Overview.pdf?folderId=db3a30432b57a660012b81890ade72d2&fileId=db3a30432b57a660012b8193af2872eb
footprint INF-PG-TO252-3-313_N (DPAK, 3-Leads, Body 6.5x6.12mm, Pitch 2.28mm, IPC Medium Density)
footprint INF-PG-TO252-3-313_L (DPAK, 3-Leads, Body 6.5x6.12mm, Pitch 2.28mm, IPC High Density)
footprint INF-PG-TO252-3-313_M (DPAK, 3-Leads, Body 6.5x6.12mm, Pitch 2.28mm, IPC Low Density)
pins: 1 GATE, 2 DRAIN, 3 SOURCE

## IPD60R950C6
designator Q?
N-Channel CoolMOS C6 Power-Transistor, 600 V VDS, 4.4 A ID, -55 to 150 degC, PG-TO252-3-313, Reel, Green; Manufacturer: Infineon; PartNumber: IPD60R950C6; Green: TRUE; ID (max): 4.4 A; IDpuls (max): 12 A; Polarity: N; Ptot (max): 37 W; QG: 13 nC; RDS (on) (max): 950 mOhm; Rth: 3.41 K/W; RthJA (max): 62 K/W; VDS (max): 600 V; VGS(th) (max): 3.5 V; VGS(th) (min): 2.5 V; DatasheetVersion: Rev. 2.1; PackageVersion: Oct-10; PackageReference: PG-TO252-3-313; PackageDescription: 3-Pin Plastic (Green) Transistor Single Outline Package, 6.5 x 6.12 mm Body, 2.28 mm Pitch; Supplier 1: Mouser; Supplier Part Number 1: 726-IPD60R950C6; Supplier 2: Digi-Key; Supplier Part Number 2: IPD60R950C6INTR-ND; Supplier 3: Digi-Key; Supplier Part Number 3: IPD60R950C6INCT-ND; Supplier 4: Digi-Key; Supplier Part Number 4: IPD60R950C6INDKR-ND; Packing: Reel; RthJC (max): 3.41 K/W; Technology: CoolMOS C6; Mounting Technology: Surface Mount; ComponentLink1Description: Manufacturer URL; ComponentLink1URL: http://www.infineon.com/; ComponentLink2Description: Datasheet; ComponentLink2URL: http://www.infineon.com/dgdl/IPD60R950C6_2.1.pdf?folderId=db3a30431ff98815012019af55de3f2c&fileId=db3a30432239cccd012297f0708f44ba; ComponentLink3Description: Package Specification; ComponentLink3URL: http://www.infineon.com/dgdl/PG-TO252-3-313-Package_Overview.pdf?folderId=db3a30432b57a660012b81890ade72d2&fileId=db3a30432b57a660012b8193af2872eb
footprint INF-PG-TO252-3-313_N (DPAK, 3-Leads, Body 6.5x6.12mm, Pitch 2.28mm, IPC Medium Density)
footprint INF-PG-TO252-3-313_L (DPAK, 3-Leads, Body 6.5x6.12mm, Pitch 2.28mm, IPC High Density)
footprint INF-PG-TO252-3-313_M (DPAK, 3-Leads, Body 6.5x6.12mm, Pitch 2.28mm, IPC Low Density)
pins: 1 GATE, 2 DRAIN, 3 SOURCE

## IPD65R1K4C6
designator Q?
N-Channel CoolMOS(TM) C6 Power Transistor, 650 V VDS, -55 to 150 degC, PG-TO252-3, Reel, Green; Manufacturer: Infineon; PartNumber: IPD65R1K4C6; Green: TRUE; Polarity: FALSE; RDS (on) (max): 1,400 mOhm; VDS (max): 650 V; DatasheetVersion: Rev. 2.0; PackageVersion: Rev. 2.2, 04/2007; PackageReference: PG-TO252-3-1_A; PackageDescription: 3-Pin Plastic (Green) Transistor Single Outline Package, 6.565 x 6.1 mm, 2.28 mm Pitch; Supplier 1: Mouser; Supplier Part Number 1: N/A; Halogen-free: TRUE; Packing: Reel; Mounting Technology: Surface Mount; ComponentLink1Description: Manufacturer URL; ComponentLink1URL: http://www.infineon.com/; ComponentLink2Description: Datasheet; ComponentLink2URL: http://www.infineon.com/dgdl/DS_IPD65R1K4C6_2_0.pdf?folderId=db3a3043156fd5730115c736bcc70ff2&fileId=db3a304340155f3d014034f54e9c4c0d; ComponentLink3Description: Package Specification; ComponentLink3URL: http://www.infineon.com/dgdl/IDD03E60Grev2_2.pdf?folderId=db3a304412b407950112b438b4176b74&fileId=db3a304412b407950112b438b49f6b75
footprint INF-PG-TO252-3-1_A_N (DPAK, 3-Leads, Body 6.565x6.1mm, Pitch 2.28mm, IPC Medium Density)
footprint INF-PG-TO252-3-1_A_L (DPAK, 3-Leads, Body 6.565x6.095mm, Pitch 2.29mm, IPC High Density)
footprint INF-PG-TO252-3-1_A_M (DPAK, 3-Leads, Body 6.565x6.095mm, Pitch 2.29mm, IPC Low Density)
pins: 1 GATE, 2 DRAIN, 3 SOURCE

## IPD65R1K4CFD
designator Q?
N-Channel CoolMOS CFD2 Power-Transistor, 650 V VDS, 2.8 A ID, -55 to 150 degC, PG-TO252-3-1, Reel, Green; Manufacturer: Infineon; PartNumber: IPD65R1K4CFD; Green: TRUE; ID (max): 2.8 A; IDpuls (max): 8.2 A; Polarity: N; Ptot (max): 28.4 W; QG: 10 nC; RDS (on) (max): 1,400 mOhm; Rth: 4.4 K/W; RthJA (max): 62 K/W; VDS (max): 650 V; VGS(th) (max): 4.5 V; VGS(th) (min): 3.5 V; DatasheetVersion: Rev. 2.0; PackageVersion: Jan-10; PackageReference: PG-TO252-3-1; PackageDescription: 3-Pin Plastic (Green) Transistor Single Outline Package, 6.5 x 6.12 mm Body, 2.28 mm Pitch; Packing: Reel; RthJC (max): 4.4 K/W; Technology: CoolMOS CFD; Mounting Technology: Surface Mount; ComponentLink1Description: Manufacturer URL; ComponentLink1URL: http://www.infineon.com/; ComponentLink2Description: Datasheet; ComponentLink2URL: http://www.infineon.com/dgdl/DS_IPD65R1K4CFD_2_0.pdf?folderId=db3a3043156fd5730115c736bcc70ff2&fileId=db3a304338ec6d3901390056583f48f4; ComponentLink3Description: Package Specification; ComponentLink3URL: http://www.infineon.com/dgdl/TLE42744_DS_11.pdf?folderId=db3a304318f3fe290118f5a433570040&fileId=db3a304327b897500128012ccafe37d2&sId=db3a30443d67b5ca013d83f7c0ea327b
footprint INF-PG-TO252-3-1_N (DPAK, 3-Leads, Body 6.525x6.12mm, Pitch 2.28mm, IPC Medium Density)
footprint INF-PG-TO252-3-1_L (DPAK, 3-Leads, Body 6.525x6.12mm, Pitch 2.28mm, IPC High Density)
footprint INF-PG-TO252-3-1_M (DPAK, 3-Leads, Body 6.525x6.12mm, Pitch 2.28mm, IPC Low Density)
pins: 1 GATE, 2 DRAIN, 3 SOURCE

## IPD65R190C7
designator Q?
N-Channel CoolMOS(TM) C7 Power Transistor, 650 V VDS, -55 to 150 degC, PG-TO252-3, Reel, Green; Manufacturer: Infineon; PartNumber: IPD65R190C7; Green: TRUE; Polarity: FALSE; RDS (on) (max): 190 mOhm; VDS (max): 650 V; DatasheetVersion: Rev. 2.1; PackageVersion: Rev. 2.2, 04/2007; PackageReference: PG-TO252-3-1_A; PackageDescription: 3-Pin Plastic (Green) Transistor Single Outline Package, 6.565 x 6.1 mm, 2.28 mm Pitch; Supplier 1: Farnell; Supplier Part Number 1: 2420492; Supplier 2: Newark; Supplier Part Number 2: 54X5226; Supplier 3: Mouser; Supplier Part Number 3: N/A; Halogen-free: TRUE; Packing: Reel; Mounting Technology: Surface Mount; ComponentLink1Description: Manufacturer URL; ComponentLink1URL: http://www.infineon.com/; ComponentLink2Description: Datasheet; ComponentLink2URL: http://www.infineon.com/dgdl/DS_IPD65R190C7_2_1.pdf?folderId=db3a3043156fd5730115c736bcc70ff2&fileId=db3a30434208e5fd014209837c650210; ComponentLink3Description: Package Specification; ComponentLink3URL: http://www.infineon.com/dgdl/IDD03E60Grev2_2.pdf?folderId=db3a304412b407950112b438b4176b74&fileId=db3a304412b407950112b438b49f6b75
footprint INF-PG-TO252-3-1_A_N (DPAK, 3-Leads, Body 6.565x6.1mm, Pitch 2.28mm, IPC Medium Density)
footprint INF-PG-TO252-3-1_A_L (DPAK, 3-Leads, Body 6.565x6.095mm, Pitch 2.29mm, IPC High Density)
footprint INF-PG-TO252-3-1_A_M (DPAK, 3-Leads, Body 6.565x6.095mm, Pitch 2.29mm, IPC Low Density)
pins: 1 GATE, 2 DRAIN, 3 SOURCE

## IPD65R225C7
designator Q?
N-Channel CoolMOS(TM) C7 Power Transistor, 650 V VDS, -55 to 150 degC, PG-TO252-3, Reel, Green; Manufacturer: Infineon; PartNumber: IPD65R225C7; Green: TRUE; Polarity: FALSE; RDS (on) (max): 225 mOhm; VDS (max): 650 V; DatasheetVersion: Rev. 2.0; PackageVersion: Rev. 2.2, 04/2007; PackageReference: PG-TO252-3-1_A; PackageDescription: 3-Pin Plastic (Green) Transistor Single Outline Package, 6.565 x 6.1 mm, 2.28 mm Pitch; Supplier 1: Farnell; Supplier Part Number 1: 2420495; Supplier 2: Newark; Supplier Part Number 2: 54X5227; Supplier 3: Mouser; Supplier Part Number 3: 726-IPD65R225C7; Halogen-free: TRUE; Packing: Reel; Mounting Technology: Surface Mount; ComponentLink1Description: Manufacturer URL; ComponentLink1URL: http://www.infineon.com/; ComponentLink2Description: Datasheet; ComponentLink2URL: http://www.infineon.com/dgdl/DS_IPD65R225C7_2_0.pdf?folderId=db3a3043163797a6011637d4bae7003b&fileId=db3a30433e78ea82013e793234000141; ComponentLink3Description: Package Specification; ComponentLink3URL: http://www.infineon.com/dgdl/IDD03E60Grev2_2.pdf?folderId=db3a304412b407950112b438b4176b74&fileId=db3a304412b407950112b438b49f6b75
footprint INF-PG-TO252-3-1_A_N (DPAK, 3-Leads, Body 6.565x6.1mm, Pitch 2.28mm, IPC Medium Density)
footprint INF-PG-TO252-3-1_A_L (DPAK, 3-Leads, Body 6.565x6.095mm, Pitch 2.29mm, IPC High Density)
footprint INF-PG-TO252-3-1_A_M (DPAK, 3-Leads, Body 6.565x6.095mm, Pitch 2.29mm, IPC Low Density)
pins: 1 GATE, 2 DRAIN, 3 SOURCE

## IPD65R250C6
designator Q?
N-Channel CoolMOS C6 Power-Transistor, 650 V VDS, 16.1 A ID, -55 to 150 degC, PG-TO252-3-1, Reel, Green; Manufacturer: Infineon; PartNumber: IPD65R250C6; Green: TRUE; ID (max): 16.1 A; IDpuls (max): 46 A; Polarity: N; Ptot (max): 208.3 W; QG: 44 nC; RDS (on) (max): 250 mOhm; Rth: 0.6 K/W; RthJA (max): 62 K/W; VDS (max): 650 V; VGS(th) (max): 3.5 V; VGS(th) (min): 2.5 V; DatasheetVersion: Rev. 2.1; PackageVersion: Jan-10; PackageReference: PG-TO252-3-1; PackageDescription: 3-Pin Plastic (Green) Transistor Single Outline Package, 6.5 x 6.12 mm Body, 2.28 mm Pitch; Halogen-free: TRUE; Packing: Reel; RthJC (max): 0.6 K/W; Technology: CoolMOS C6; Mounting Technology: Surface Mount; ComponentLink1Description: Manufacturer URL; ComponentLink1URL: http://www.infineon.com/; ComponentLink2Description: Datasheet; ComponentLink2URL: http://www.infineon.com/dgdl/DS_IPD65R250C6_2_1.pdf?folderId=db3a3043156fd5730115c736bcc70ff2&fileId=db3a3043337a914d013383668e4d609a; ComponentLink3Description: Package Specification; ComponentLink3URL: http://www.infineon.com/dgdl/TLE42744_DS_11.pdf?folderId=db3a304318f3fe290118f5a433570040&fileId=db3a304327b897500128012ccafe37d2&sId=db3a30443d67b5ca013d83f7c0ea327b
footprint INF-PG-TO252-3-1_N (DPAK, 3-Leads, Body 6.525x6.12mm, Pitch 2.28mm, IPC Medium Density)
footprint INF-PG-TO252-3-1_L (DPAK, 3-Leads, Body 6.525x6.12mm, Pitch 2.28mm, IPC High Density)
footprint INF-PG-TO252-3-1_M (DPAK, 3-Leads, Body 6.525x6.12mm, Pitch 2.28mm, IPC Low Density)
pins: 1 GATE, 2 DRAIN, 3 SOURCE